# EAGLE library part INA250A1PW (library INA250)
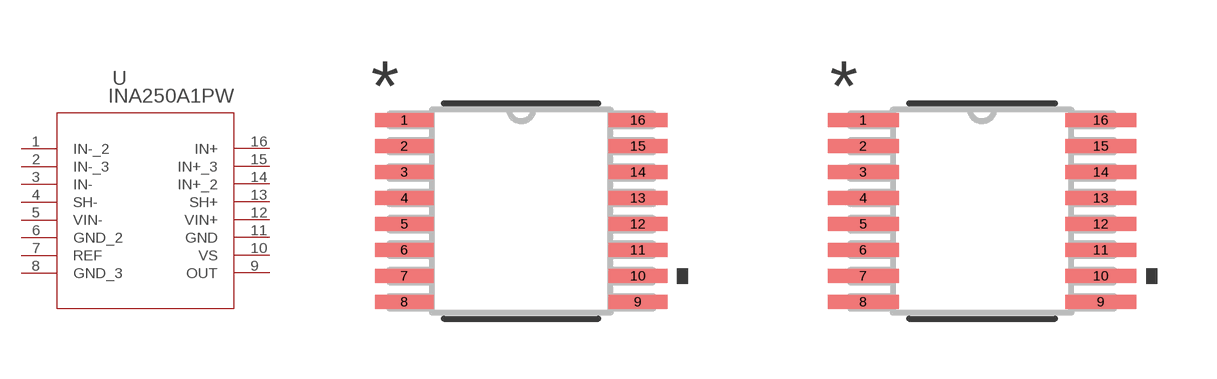
[diagram p0: symbol with the pads of PW16_TEX; footprints PW16_TEX, PW16_TEX-M]

Designator prefix U

## INA250A1PW (COPYRIGHT: Copyright (C) 2022 Ultra Librarian. All rights reserved.; MANUFACTURER_PART_NUMBER: INA250A1PW; MFR_NAME: Texas Instruments)  [PW16_TEX]
1  IN-_2  in
2  IN-_3  in
3  IN-  in
4  SH-  out
5  VIN-  in
6  GND_2  pwr
7  REF  in
8  GND_3  pwr
9  OUT  out
10  VS  pwr
11  GND  pwr
12  VIN+  in
13  SH+  out
14  IN+_2  in
15  IN+_3  in
16  IN+  in

## INA250A1PWPW16_TEX-M (COPYRIGHT: Copyright (C) 2022 Ultra Librarian. All rights reserved.; MANUFACTURER_PART_NUMBER: INA250A1PW; MFR_NAME: Texas Instruments)  [PW16_TEX-M]
Pads as for PW16_TEX

## INA250A1PWPW16_TEX-L (COPYRIGHT: Copyright (C) 2022 Ultra Librarian. All rights reserved.; MANUFACTURER_PART_NUMBER: INA250A1PW; MFR_NAME: Texas Instruments)  [PW16_TEX-L]
Pads as for PW16_TEX

## Footprint PW16_TEX (pad centres in mm)
smd 1.473 x 0.356: 1 -2.921,2.275; 2 -2.921,1.625; 3 -2.921,0.975; 4 -2.921,0.325; 5 -2.921,-0.325; 6 -2.921,-0.975; 7 -2.921,-1.625; 8 -2.921,-2.275; 9 2.921,-2.275; 10 2.921,-1.625; 11 2.921,-0.975; 12 2.921,-0.325; 13 2.921,0.325; 14 2.921,0.975; 15 2.921,1.625; 16 2.921,2.275

## Footprint PW16_TEX-M (pad centres in mm)
smd 1.778 x 0.356: 1 -2.972,2.275; 2 -2.972,1.625; 3 -2.972,0.975; 4 -2.972,0.325; 5 -2.972,-0.325; 6 -2.972,-0.975; 7 -2.972,-1.625; 8 -2.972,-2.275; 9 2.972,-2.275; 10 2.972,-1.625; 11 2.972,-0.975; 12 2.972,-0.325; 13 2.972,0.325; 14 2.972,0.975; 15 2.972,1.625; 16 2.972,2.275

## Footprint PW16_TEX-L (pad centres in mm)
smd 1.168 x 0.305: 1 -2.87,2.275; 2 -2.87,1.625; 3 -2.87,0.975; 4 -2.87,0.325; 5 -2.87,-0.325; 6 -2.87,-0.975; 7 -2.87,-1.625; 8 -2.87,-2.275; 9 2.87,-2.275; 10 2.87,-1.625; 11 2.87,-0.975; 12 2.87,-0.325; 13 2.87,0.325; 14 2.87,0.975; 15 2.87,1.625; 16 2.87,2.275